# Altium schematic symbol library LM324.SchLib: 1 symbol
Pins are listed as number, name and electrical type; pins without a type are passive.

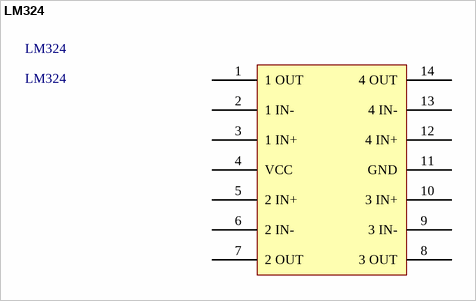
[diagram p0: symbol LM324]

## LM324
designator LM324
footprint LM324
pins: 1 1 OUT, 2 1 IN-, 3 1 IN+, 4 VCC, 5 2 IN+, 6 2 IN-, 7 2 OUT, 8 3 OUT, 9 3 IN-, 10 3 IN+, 11 GND, 12 4 IN+, 13 4 IN-, 14 4 OUT